# EAGLE library part 687117182122 (library Eagle_FPC_CONNECTOR_AND_FFC_CAB (rev18c))
CONFPCI - 0.5 MM PITCH HORIZONTAL DUAL CONTACT, BACK FLIP ACTUATOR=>Code : ConFPC-6871178182122 Characteristics INSULATOR: LCP FLAMABILITY RATING: UL94-V0 COLOUR: IVORY CONTACT MATERIAL: PHOSPHOR BRONZE CONTACT PLATING: 80 μ’’ MAT TIN OVER 50 μ’’ NICKEL CONTACT TYPE: STAMPED TAB MATERIAL: BRASS TAB PLATING: 80 μ’’ MAT TIN OVER 50 μ’’ NICKEL TAB TYPE: STAMPED ACTUATOR MATERIAL: PA9T ACTUATOR COLOUR: BLACK QUALITY CLASS: 20 MATING CYCLES PITCH: 0.50 MM PACKAGING:TAPE AND REEL COMPLIANCE: ROHS AND HALOGEN FREE OPERATING TEMPERATURE: -40°C UP TO +105°C ELECTRICAL CURRENT RATING: 0.5A WORKING VOLTAGE: 50 VAC WITHSTANDING VOLTAGE: 0.25 KVAC/min CONTATC RESISTANCE: 30 mOHM INSULATION RESISTANCE: >500 MΩ <http://katalog.we-online.de/media/images/v2/Family_WR-FPC_687186182122.jpg> Details see: http://katalog.we-online.de/en/em/FPC_0_5_SMT_ZIF_HORIZONTAL_DUAL_CONTACT_BACK_LOCKING_6871XX182122 2015 (C) Wurth Elektronik
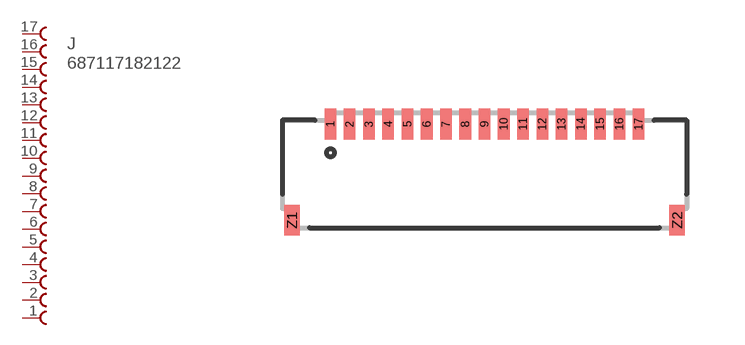
[diagram p133: symbol with the pads of 687117182122; footprint 687117182122]

Designator prefix J

## 687117182122  [687117182122]
1  17  pas
2  16  pas
3  15  pas
4  14  pas
5  13  pas
6  12  pas
7  11  pas
8  10  pas
9  9  pas
10  8  pas
11  7  pas
12  6  pas
13  5  pas
14  4  pas
15  3  pas
16  2  pas
17  1  pas

## Footprint 687117182122 (pad centres in mm)
smd 0.3 x 0.8: 1 -4,1.25; 2 -3.5,1.25; 3 -3,1.25; 4 -2.5,1.25; 5 -2,1.25; 6 -1.5,1.25; 7 -1,1.25; 8 -0.5,1.25; 9 0,1.25; 10 0.5,1.25; 11 1,1.25; 12 1.5,1.25; 13 2,1.25; 14 2.5,1.25; 15 3,1.25; 16 3.5,1.25; 17 4,1.25
smd 0.4 x 0.8: Z1 -5,-1.25; Z2 5,-1.25